# Altium footprint library PcbLib_Acura.PcbLib: 137 footprints (part 4 of 9)
Each footprint in its own frame and in the unit in brackets; x right, y up, seen from the top. Pads: shape width x height; smd on the part's side, far side on the other; paste and mask are expansions set on the pad; w line width, h text height; cw(c..) or ccw(c..) is an arc to the next point about the centre after c.
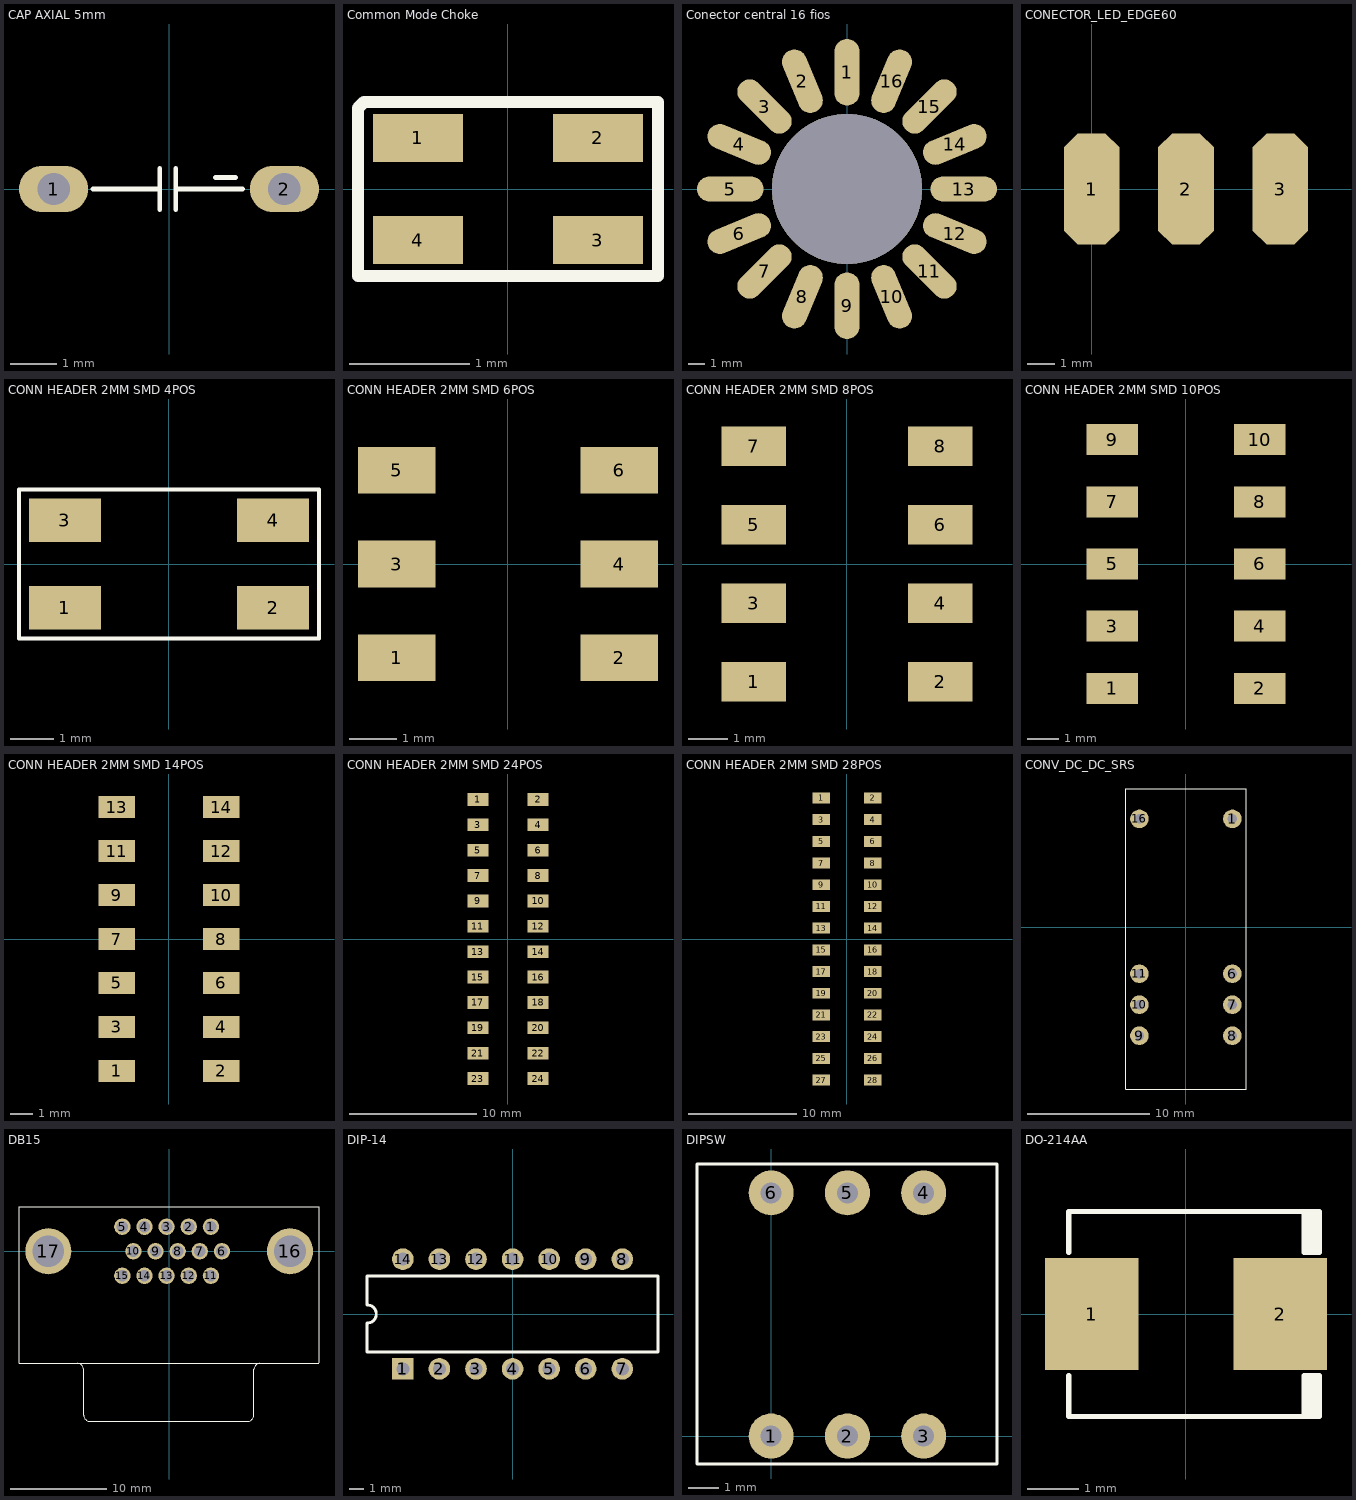
[diagram p3: the footprints below, top view; thin cyan lines are the x and y axes]

## CAP AXIAL 5mm [mm]
pads (2):
  oval 1.5x1 hole 0.7 paste+0: 1(-2.5,0)
  oval 1.5x1 hole 0.7: 2(2.5,0)
Top Overlay:
  lines w0.1: -1.65,0 -0.2,0 ; -0.2,-0.45 -0.2,0 ; -0.2,0.45 -0.2,0 ; 0.15,-0.45 0.15,0 ; 0.15,0.45 0.15,0 ; 1,0.25 1.45,0.25 ; 1.6,0 0.15,0

## Common Mode Choke [mm]
pads (4):
  rect 0.75x0.4 smd: 1(-0.75,0.425) 2(0.75,0.425) 3(0.75,-0.425) 4(-0.75,-0.425)
Top Overlay:
  lines w0.1: -1.25,-0.725 1.25,-0.725 1.25,0.725 -1.2,0.725 -1.25,0.675 -1.25,-0.725

## Conector central 16 fios [mm]
pads (17):
  oval 1.5x4 smd: 1(0,7) 9(0,-7)
  oval 1.5x4 smd rot 22.5: 2(-2.679,6.467) 10(2.679,-6.467)
  oval 1.5x4 smd rot 45: 3(-4.95,4.95) 11(4.95,-4.95)
  oval 1.5x4 smd rot 67.5: 4(-6.467,2.679) 12(6.467,-2.679)
  oval 4x1.5 smd: 5(-7,0) 13(7,0)
  oval 1.5x4 smd rot 112.5: 6(-6.467,-2.679) 14(6.467,2.679)
  oval 1.5x4 smd rot 135: 7(-4.95,-4.95) 15(4.95,4.95)
  oval 1.5x4 smd rot 157.5: 8(-2.679,-6.467) 16(2.679,6.467)
  round 9 hole 9 unplated: ""(0,0)

## CONECTOR_LED_EDGE60 [mm]
pads (3):
  oct 2x4 smd: 1(0,0) 2(3.4,0) 3(6.8,0)

## CONN HEADER 2MM SMD 4POS [mm] "CONN HEADER 2MM SMD AU 4POS"
pads (4):
  rect 1.65x1 smd: 1(-2.375,-1) 2(2.375,-1) 3(-2.375,1) 4(2.375,1)
Top Overlay:
  lines w0.1: -3.425,-1.7 -3.425,1.7 3.425,1.7 3.425,-1.7 -3.425,-1.7

## CONN HEADER 2MM SMD 6POS [mm] "CONN HEADER 2MM SMD AU 6POS"
pads (6):
  rect 1.65x1 smd: 1(-2.375,-2) 2(2.375,-2) 3(-2.375,0) 4(2.375,0) 5(-2.375,2) 6(2.375,2)

## CONN HEADER 2MM SMD 8POS [mm] "CONN HEADER 2MM SMD AU 8POS"
pads (8):
  rect 1.65x1 smd: 1(-2.375,-3) 2(2.375,-3) 3(-2.375,-1) 4(2.375,-1) 5(-2.375,1) 6(2.375,1) 7(-2.375,3) 8(2.375,3)

## CONN HEADER 2MM SMD 10POS [mm] "CONN HEADER 2MM SMD AU 10POS"
pads (10):
  rect 1.65x1 smd: 1(-2.375,-4) 2(2.375,-4) 3(-2.375,-2) 4(2.375,-2) 5(-2.375,0) 6(2.375,0) 7(-2.375,2) 8(2.375,2) 9(-2.375,4) 10(2.375,4)

## CONN HEADER 2MM SMD 14POS [mm] "CONN HEADER 2MM SMD AU 14POS"
pads (14):
  rect 1.65x1 smd: 1(-2.375,-6) 2(2.375,-6) 3(-2.375,-4) 4(2.375,-4) 5(-2.375,-2) 6(2.375,-2) 7(-2.375,0) 8(2.375,0) 9(-2.375,2) 10(2.375,2) 11(-2.375,4) 12(2.375,4) 13(-2.375,6) 14(2.375,6)

## CONN HEADER 2MM SMD 24POS [mm] "CONN HEADER 2MM SMD AU 24POS"
pads (24):
  rect 1.65x1 smd: 1(-2.375,11) 2(2.375,11) 3(-2.375,9) 4(2.375,9) 5(-2.375,7) 6(2.375,7) 7(-2.375,5) 8(2.375,5) 9(-2.375,3) 10(2.375,3) 11(-2.375,1) 12(2.375,1) 13(-2.375,-1) 14(2.375,-1) 15(-2.375,-3) 16(2.375,-3) 17(-2.375,-5) 18(2.375,-5) 19(-2.375,-7) 20(2.375,-7) 21(-2.375,-9) 22(2.375,-9) 23(-2.375,-11) 24(2.375,-11)

## CONN HEADER 2MM SMD 28POS [mm] "CONN HEADER 2MM SMD AU 28POS"
pads (28):
  rect 1.65x1 smd: 1(-2.375,13) 2(2.375,13) 3(-2.375,11) 4(2.375,11) 5(-2.375,9) 6(2.375,9) 7(-2.375,7) 8(2.375,7) 9(-2.375,5) 10(2.375,5) 11(-2.375,3) 12(2.375,3) 13(-2.375,1) 14(2.375,1) 15(-2.375,-1) 16(2.375,-1) 17(-2.375,-3) 18(2.375,-3) 19(-2.375,-5) 20(2.375,-5) 21(-2.375,-7) 22(2.375,-7) 23(-2.375,-9) 24(2.375,-9) 25(-2.375,-11) 26(2.375,-11) 27(-2.375,-13) 28(2.375,-13)

## CONV_DC_DC_SRS [mil]
pads (8):
  round 60 hole 30: 1(150,350) 6(150,-150) 7(150,-250) 8(150,-350) 9(-150,-350) 10(-150,-250) 11(-150,-150) 16(-150,350)
Top Overlay:
  lines w1.97: -194.49,-522.05 -194.49,446.46 195.28,446.46 195.28,-522.05 -194.49,-522.05

## DB15 [mm]
pads (17):
  round 1.69 hole 1.19: 1(4.32,2.54) 2(2.03,2.54) 3(-0.26,2.54) 4(-2.55,2.54) 5(-4.84,2.54) 6(5.46,0) 7(3.17,0) 8(0.88,0) 9(-1.41,0) 10(-3.7,0) 11(4.32,-2.54) 12(2.03,-2.54) 13(-0.26,-2.54) 14(-2.55,-2.54) 15(-4.84,-2.54)
  round 4.76 hole 3.26: 16(12.5,0) 17(-12.5,0)
Top Overlay:
  lines w0.1: -9.44,-11.582 cw(c-9.595,-12.335) -8.84,-12.19 -8.84,-16.94 ccw(c-8.19,-16.94) -8.19,-17.59 -0.04,-17.59 8.11,-17.59 ccw(c8.11,-16.94) 8.76,-16.94 8.76,-12.19 cw(c9.513,-12.345) 9.368,-11.59 ; 15.47,-11.58 -15.53,-11.58 -15.53,0 -15.53,4.61 -4.84,4.61 15.5,4.61 15.5,0 15.5,-11.55

## DIP-14 [mm] "DIP; 14 Leads; Row Spacing 7.62 mm; Pitch 2.54 mm"
height 5.08
pads (14):
  rect 1.5x1.5 hole 0.9: 1(-7.62,-3.81)
  round 1.5 hole 0.9: 2(-5.08,-3.81) 3(-2.54,-3.81) 4(0,-3.81) 5(2.54,-3.81) 6(5.08,-3.81) 7(7.62,-3.81) 8(7.62,3.81) 9(5.08,3.81) 10(2.54,3.81) 11(0,3.81) 12(-2.54,3.81) 13(-5.08,3.81) 14(-7.62,3.81)
Top Overlay:
  lines w0.2: -10.1,-2.65 10.1,-2.65 10.1,2.65 -10.1,2.65 -10.1,0.635 cw(c-10.1,0) -10.1,-0.635 -10.1,-2.65

## DIPSW [mm] "Part# 3-5435640-0"
pads (6):
  round 1.5 hole 0.7: 1(0,0) 2(2.54,0) 3(5.08,0) 4(5.08,8.1) 5(2.54,8.1) 6(0,8.1)
Top Overlay:
  lines w0.1: -2.47,-0.93 7.52,-0.93 7.52,9.06 -2.47,9.06 -2.47,-0.93

## DO-214AA [mm]
pads (2):
  rect 1.82x2.18 smd: 1(-1.84,0) 2(1.84,0)
Top Overlay:
  lines w0.1: -2.29,-1.2 -2.29,-2 ; -2.29,1.2 -2.29,2 2.31,2 ; 2.41,-2 2.41,-1.2 ; 2.41,1.2 2.41,2 ; 2.51,-2 2.51,-1.2 ; 2.51,1.2 2.51,2 ; -2.29,-2 2.31,-2 ; -2.29,-2 -2.29,-2 ; 2.31,-2 2.31,-1.2 2.61,-1.2 2.61,-2 2.31,-2 ; 2.31,2 2.31,1.2 2.61,1.2 2.61,2 2.31,2